# EAGLE library part TPS61089RNRR (library ICs)
Voltage Regulators - Switching Regulators 12.6-V, 7-A Fully-Integrated Synchronous Boost Converters in 2.0-mm x 2.5-mm VQFN Package 11-VQFN-HR -40 to 85
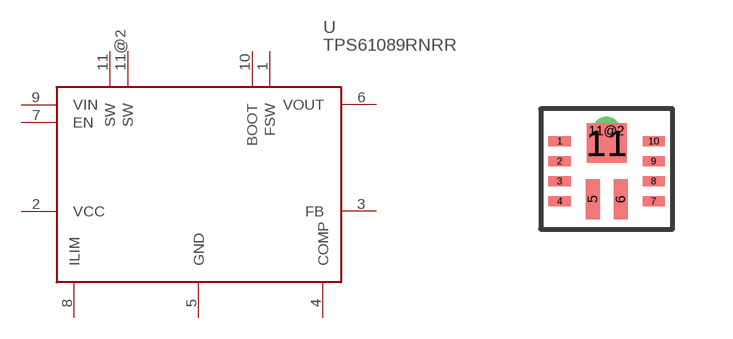
[diagram p135: symbol with the pads of BQ61089_VQFN_11; footprint BQ61089_VQFN_11]

Designator prefix U

## TPS61089RNRR (MOUSER: 595-TPS61089RNRR; PRICE_PER: 2.74; VALUE: TPS61089)  [BQ61089_VQFN_11]
1  FSW
2  VCC
3  FB
4  COMP
5  GND
6  VOUT
7  EN
8  ILIM
9  VIN
10  BOOT
11  SW
11@2  SW

## Footprint BQ61089_VQFN_11 (pad centres in mm)
smd 0.55 x 0.25: 1 -1.175,0.75; 2 -1.175,0.25; 3 -1.175,-0.25; 4 -1.175,-0.75; 7 1.175,-0.75; 8 1.175,-0.25; 9 1.175,0.25; 10 1.175,0.75
smd 0.35 x 1: 5 -0.35,-0.7; 6 0.35,-0.7
smd 1 x 1: 11 0,0.7
drill 0.2 pad 0.3: 11@2 0,1